# EAGLE library part IN-12B (library vacuum_tubes)
IN-12B: medium numeric topview nixie tube
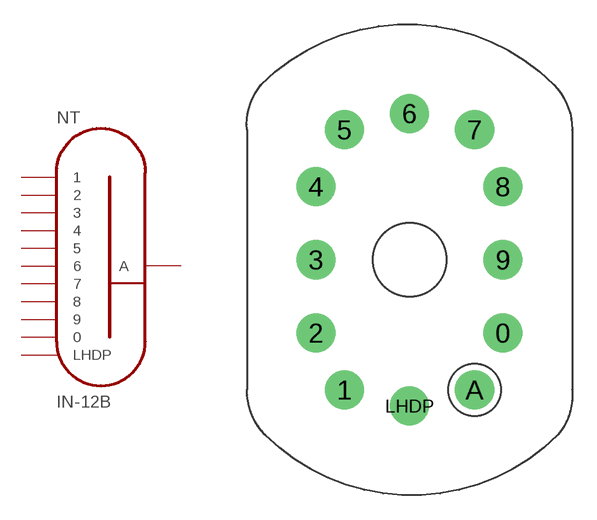
[diagram p1: symbol with the pads of IN-12; footprint IN-12]

Designator prefix NT

## IN-12B  [IN-12]
0  0
1  1
2  2
3  3
4  4
5  5
6  6
7  7
8  8
9  9
A  A
LHDP  LHDP

## Footprint IN-12 (pad centres in mm)
May be used with socket: SK-136
drill 1.6: 0 5.75,-4.5; 1 -4,-8; 2 -5.75,-4.5; 3 -5.75,0; 4 -5.75,4.5; 5 -4,8; 6 0,9; 7 4,8; 8 5.75,4.5; 9 5.75,0; A 4,-8; LHDP 0,-9